# Altium schematic symbol library SCH - INTERFACE - I2C -  PCA9505DGG,118.SCHLIB: 1 symbol
Pins are listed as number, name and electrical type; pins without a type are passive.

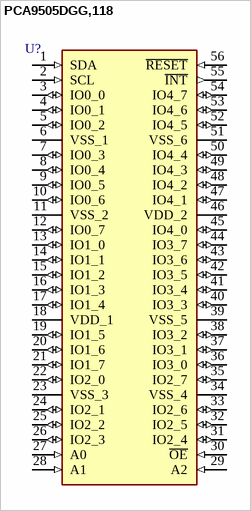
[diagram p0: symbol PCA9505DGG,118]

## PCA9505DGG,118
designator U?
pins: 1 SDA (in), 2 SCL (in), 3 IO0_0 (io), 4 IO0_1 (io), 5 IO0_2 (io), 6 VSS_1 (power), 7 IO0_3 (io), 8 IO0_4 (io), 9 IO0_5 (io), 10 IO0_6 (io), 11 VSS_2 (power), 12 IO0_7 (io), 13 IO1_0 (io), 14 IO1_1 (io), 15 IO1_2 (io), 16 IO1_3 (io), 17 IO1_4 (io), 18 VDD_1 (power), 19 IO1_5 (io), 20 IO1_6 (io), 21 IO1_7 (io), 22 IO2_0 (io), 23 VSS_3 (power), 24 IO2_1 (io), 25 IO2_2 (io), 26 IO2_3 (io), 27 A0 (in), 28 A1 (in), 29 A2 (in), 30 ~{OE} (in), 31 IO2_4 (io), 32 IO2_5 (io), 33 IO2_6 (io), 34 VSS_4 (power), 35 IO2_7 (io), 36 IO3_0 (io), 37 IO3_1 (io), 38 IO3_2 (io), 39 VSS_5 (power), 40 IO3_3 (io), 41 IO3_4 (io), 42 IO3_5 (io), 43 IO3_6 (io), 44 IO3_7 (io), 45 IO4_0 (io), 46 VDD_2 (power), 47 IO4_1 (io), 48 IO4_2 (io), 49 IO4_3 (io), 50 IO4_4 (io), 51 VSS_6 (power), 52 IO4_5 (io), 53 IO4_6 (io), 54 IO4_7 (io), 55 ~{INT} (out), 56 ~{RESET} (in)